# Altium footprint library MANEA_TCAD_PROIECT_PcbLib1.PcbLib: 36 footprints (part 1 of 3)
Each footprint in its own frame and in the unit in brackets; x right, y up, seen from the top. Pads: shape width x height; smd on the part's side, far side on the other; paste and mask are expansions set on the pad; w line width, h text height; cw(c..) or ccw(c..) is an arc to the next point about the centre after c.
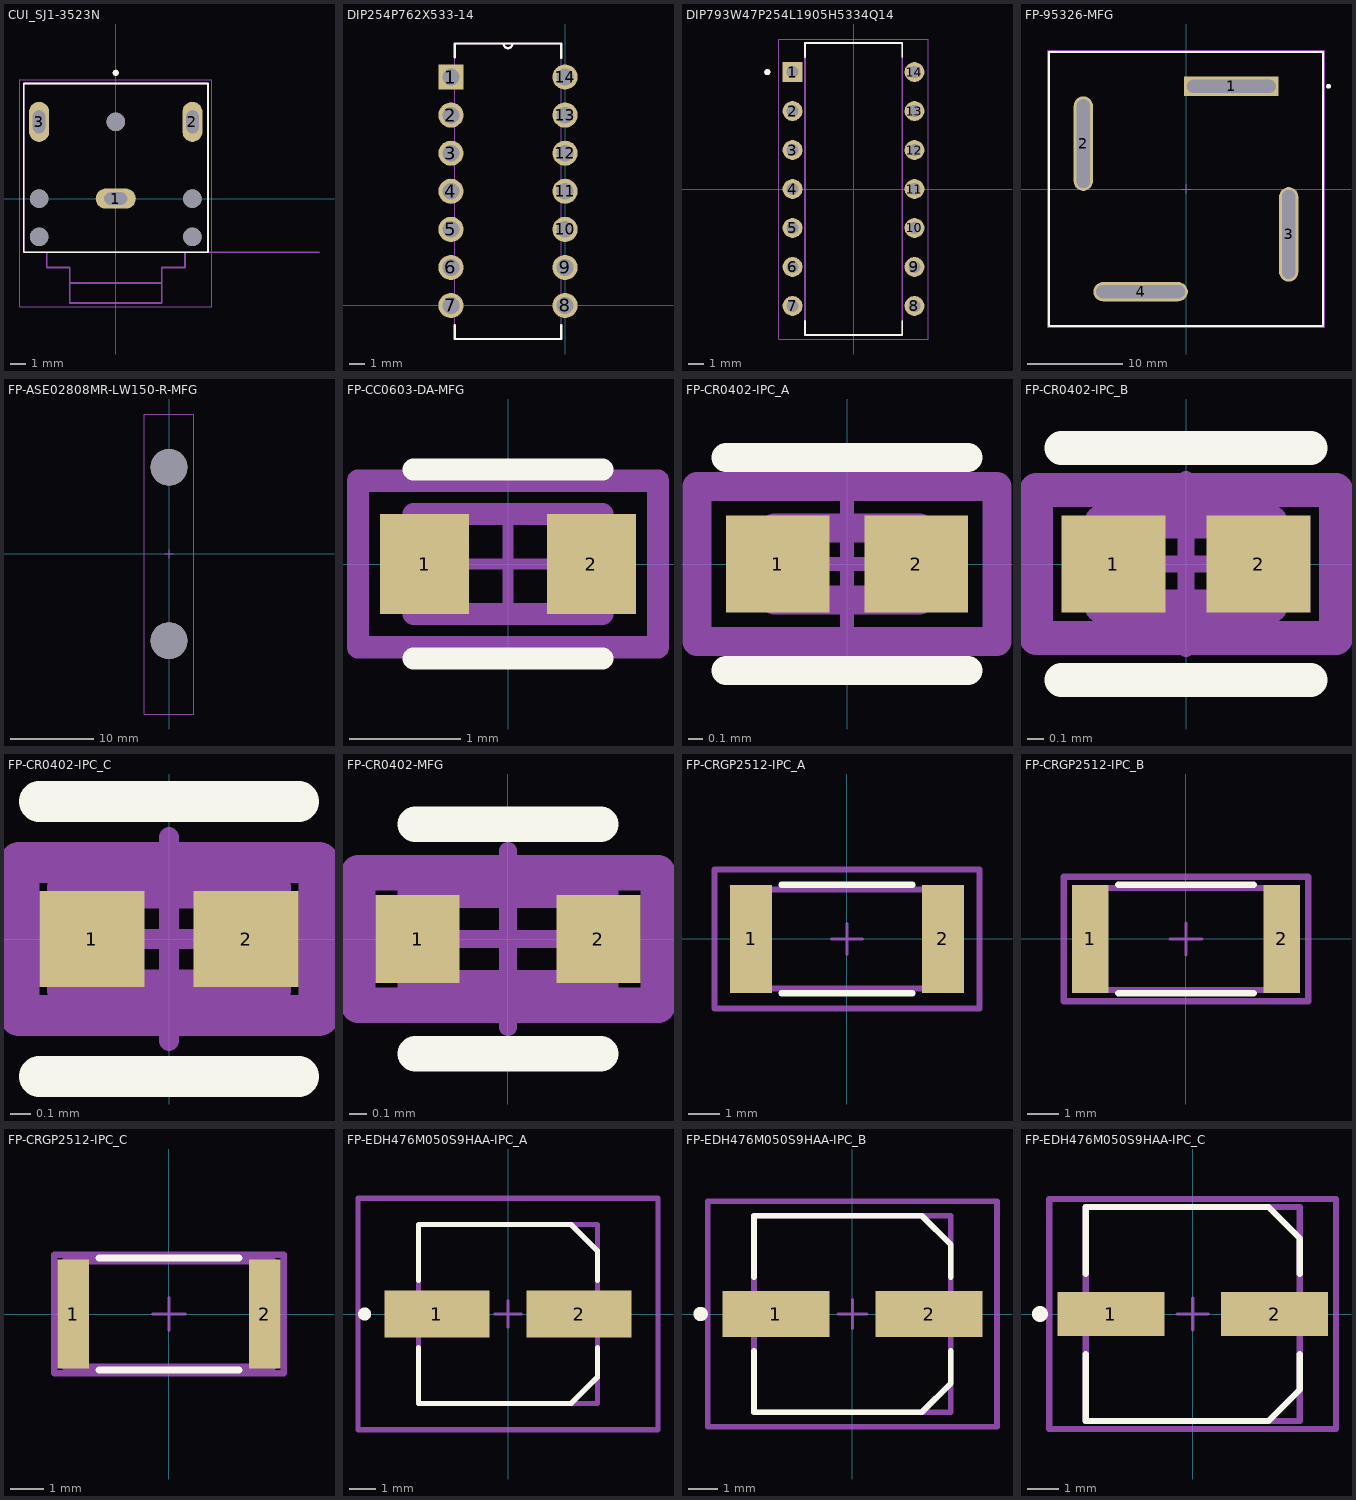
[diagram p0: the footprints below, top view; thin cyan lines are the x and y axes]

## CUI_SJ1-3523N [mm] "Manea - Stereo jack"
height 6.25
pads (8):
  oval 2.616x1.308 hole 0.8 slot 1.5 at 0 deg: 1(0,0)
  oval 1.308x2.616 hole 0.8 slot 1.5 at 90 deg: 2(5,5) 3(-5,5)
  round 1.2 hole 1.2 unplated: ""(-5,-2.5) ""(-5,0) ""(0,5) ""(5,-2.5) ""(5,0)
Top Overlay:
  circle w0.2: c0,8.2 r0.1
  lines w0.127: -6,-3.5 6,-3.5 6,7.5 -6,7.5 -6,-3.5
Top 3D Body:
  circle w0.2: c0,8.2 r0.1
  lines w0.127: 13.25,-3.5 6,-3.5 ; -4.5,-3.5 -4.5,-4.5 -3,-4.5 -3,-5.5 ; -4.5,-3.5 4.5,-3.5 ; -4.5,-3.5 -6,-3.5 -6,7.5 6,7.5 6,-3.5 ; -3,-5.5 3,-5.5 ; -3,-5.5 -3,-6.8 3,-6.8 3,-5.5 ; 3,-5.5 3,-4.5 4.5,-4.5 4.5,-3.5 ; 4.5,-3.5 6,-3.5
  text "PCB EDGE" at 7,-3.25 h0.81
Top Courtyard:
  lines w0.05: -6.25,-7.05 -6.25,7.75 6.25,7.75 6.25,-7.05 -6.25,-7.05
3D body "step_temp.STEP": height 3.01, standoff -5.5, extent -6,-6.807 6,7.493

## DIP254P762X533-14 [mil] "Manea - IC LM1877N"
pads (14):
  rect 66x66 / inner round 66 / far side rect 66x66 hole 44: 1(-300,600)
  round 66 hole 44: 2(-300,500) 3(-300,400) 4(-300,300) 5(-300,200) 6(-300,100) 7(-300,0) 8(0,0) 9(0,100) 10(0,200) 11(0,300) 12(0,400) 13(0,500) 14(0,600)
Top Overlay:
  lines w6: -290,-51 -290,-88 -10,-88 -10,-51 ; -290,652 -290,688 -162,688 ; -10,651 -10,688 -138,688 ; -162,688 ccw(c-150,688) -138,688 ; -162,688 -138,688
Top 3D Body:
  lines w0: -162,688 ccw(c-150,688) -138,688 ; -162,688 -138,688 ; -162,688 -290,688 -290,-88 -10,-88 -10,688 -138,688 ; -322,-22 -322,22 -290,22 -290,-22 -322,-22 ; -322,78 -322,122 -290,122 -290,78 -322,78 ; -322,178 -322,222 -290,222 -290,178 -322,178 ; -322,278 -322,322 -290,322 -290,278 -322,278 ; -322,378 -322,422 -290,422 -290,378 -322,378 ; -322,478 -322,522 -290,522 -290,478 -322,478 ; -322,578 -322,622 -290,622 -290,578 -322,578 ; -10,-22 -10,22 22,22 22,-22 -10,-22 ; -10,78 -10,122 22,122 22,78 -10,78 ; -10,178 -10,222 22,222 22,178 -10,178 ; -10,278 -10,322 22,322 22,278 -10,278 ; -10,378 -10,422 22,422 22,378 -10,378 ; -10,478 -10,522 22,522 22,478 -10,478 ; -10,578 -10,622 22,622 22,578 -10,578
3D body "step_temp.STEP": height 200, standoff -125.2, extent -304.92,-80.04 4.92,680

## DIP793W47P254L1905H5334Q14 [mm] "Manea - Integrated Circuit (LM1877N) [IC2 - 3]"
pads (14):
  rect 1.298x1.298 / inner round 1.298 / far side rect 1.298x1.298 hole 0.79: 1(-3.969,7.62)
  round 1.298 hole 0.79: 2(-3.969,5.08) 3(-3.969,2.54) 4(-3.969,0) 5(-3.969,-2.54) 6(-3.969,-5.08) 7(-3.969,-7.62) 8(3.969,-7.62) 9(3.969,-5.08) 10(3.969,-2.54) 11(3.969,0) 12(3.969,2.54) 13(3.969,5.08) 14(3.969,7.62)
Top Overlay:
  circle w0.2: c-5.618,7.62 r0.1
  lines w0.127: -3.175,-8.589 -3.175,-9.525 3.175,-9.525 3.175,-8.589 ; -3.175,8.589 -3.175,9.525 3.175,9.525 3.175,8.589
Top 3D Body:
  circle w0.2: c-5.618,7.62 r0.1
  lines w0.127: -3.175,-9.525 3.175,-9.525 3.175,9.525 -3.175,9.525 -3.175,-9.525
Top Courtyard:
  lines w0.05: -4.868,-9.775 -4.868,9.775 4.868,9.775 4.868,-9.775 -4.868,-9.775
3D body "step_temp.STEP": height 5.08, standoff -3.18, extent -3.935,-9.653 3.935,9.653

## FP-95326-MFG [mm] "Manea - Bridge Diode"
pads (4):
  rect 9.9x2 hole 1.4 slot 9.3 at 0 deg paste-2539.97 mask+0: 1(4.75,10.75)
  rrect100% 2x9.9 hole 1.4 slot 9.3 at 90 deg paste-2539.97 mask+0: 2(-10.75,4.75) 3(10.75,-4.75)
  rrect100% 9.9x2 hole 1.4 slot 9.3 at 0 deg paste-2539.97 mask+0: 4(-4.75,-10.75)
Top Overlay:
  circle w0.25: c14.925,10.75 r0.125
  lines w0.2: -14.325,-14.325 14.325,-14.325 14.325,14.325 -14.325,14.325 -14.325,-14.325
Top Assembly:
  lines w0.2: -14.425,-14.425 14.425,-14.425 14.425,14.425 -14.425,14.425 -14.425,-14.425
  text ".Designator" at 0,0.187 h1
Top 3D Body:
  lines w0.2: -14.325,-14.325 14.325,-14.325 14.325,14.325 -14.325,14.325 -14.325,-14.325
Top Courtyard:
  lines w0.2: -14.425,-14.425 14.425,-14.425 14.425,14.425 -14.425,14.425 -14.425,-14.425
Top Component Center:
  lines w0.1: -0.5,0 0.5,0 ; 0,-0.5 0,0.5
3D body "Diode_Vishay_VS-26MB40A_eec.STEP": height 0.25, standoff 0, extent -14.425,-14.425 14.425,14.425

## FP-ASE02808MR-LW150-R-MFG [mm] "Manea - Speaker"
pads (2):
  round 4.4 hole 4.4 unplated paste-2539.97 mask+0: ""(0,-10.4) ""(0,10.4)
Mechanical 1:
  lines w0.05: -3,16.8 3,16.8
  lines w0.1: -3,16.8 -3,-19.2 3,-19.2 3,16.8
Top Designator:
  lines w0.05: -3,16.8 -3,-19.2 3,-19.2 3,16.8
  lines w0.1: -3,16.8 3,16.8
Top Component Center:
  lines w0.1: -0.5,0 0.5,0 ; 0,-0.5 0,0.5
3D body "CLS0361--3DModel-STEP-1.STEP": height 18, standoff -18, extent -3,-19.2 3,16.8

## FP-CC0603-DA-MFG [mm] "Manea - Cap 100nF Ceramic"
pads (2):
  rect 0.8x0.9 smd paste+0 mask+0.102: 1(-0.75,0) 2(0.75,0)
Top Overlay:
  lines w0.2: -0.85,-0.85 0.85,-0.85 ; -0.85,0.85 0.85,0.85
Top Assembly:
  lines w0.2: -1.35,-0.75 1.35,-0.75 1.35,0.75 -1.35,0.75 -1.35,-0.75
  text ".Designator" at 0,0.187 h1
Top 3D Body:
  lines w0.2: -0.85,-0.45 0.85,-0.45 0.85,0.45 -0.85,0.45 -0.85,-0.45
Top Courtyard:
  lines w0.2: -1.35,-0.75 1.35,-0.75 1.35,0.75 -1.35,0.75 -1.35,-0.75
Top Component Center:
  lines w0.1: -0.5,0 0.5,0 ; 0,-0.5 0,0.5
3D body "Cap_YAGEO_CC0603KRX7R9BB271_eec.STEP": height 0.25, standoff 0, extent -1.35,-0.75 1.35,0.75

## FP-CR0402-IPC_A [mm] "Manea Resis - 2.7Ω (long)"
pads (2):
  rect 0.715x0.672 smd paste+0 mask+0.102: 1(-0.479,0) 2(0.479,0)
Top Overlay:
  lines w0.2: -0.836,-0.736 0.836,-0.736 ; -0.836,0.736 0.836,0.736
Top Assembly:
  lines w0.1: -1.036,-0.536 1.036,-0.536 1.036,0.536 -1.036,0.536 -1.036,-0.536
  text ".Designator" at 0,0.187 h1
Top 3D Body:
  lines w0.2: -0.5,-0.25 0.5,-0.25 0.5,0.25 -0.5,0.25 -0.5,-0.25
Top Courtyard:
  lines w0.2: -1.036,-0.536 1.036,-0.536 1.036,0.536 -1.036,0.536 -1.036,-0.536
Top Component Center:
  lines w0.1: -0.5,0 0.5,0 ; 0,-0.5 0,0.5
3D body "Res_Bourns_CR0402-FX-1243GLF_eec.STEP": height 0.25, standoff 0, extent -1.036,-0.536 1.036,0.536

## FP-CR0402-IPC_B [mm] "Manea Resis - 2.7Ω (mid)"
pads (2):
  rect 0.615x0.572 smd paste+0 mask+0.102: 1(-0.429,0) 2(0.429,0)
Top Overlay:
  lines w0.2: -0.736,-0.686 0.736,-0.686 ; -0.736,0.686 0.736,0.686
Top Assembly:
  lines w0.1: -0.886,-0.436 0.886,-0.436 0.886,0.436 -0.886,0.436 -0.886,-0.436
  text ".Designator" at 0,0.187 h1
Top 3D Body:
  lines w0.2: -0.5,-0.25 0.5,-0.25 0.5,0.25 -0.5,0.25 -0.5,-0.25
Top Courtyard:
  lines w0.2: -0.886,-0.436 0.886,-0.436 0.886,0.436 -0.886,0.436 -0.886,-0.436
Top Component Center:
  lines w0.1: -0.5,0 0.5,0 ; 0,-0.5 0,0.5
3D body "Res_Bourns_CR0402-FX-1243GLF_eec.STEP": height 0.25, standoff 0, extent -0.886,-0.436 0.886,0.436

## FP-CR0402-IPC_C [mm] "Manea Resis - 2.7Ω (short)"
pads (2):
  rect 0.515x0.472 smd paste+0 mask+0.102: 1(-0.379,0) 2(0.379,0)
Top Overlay:
  lines w0.2: -0.636,-0.675 0.636,-0.675 ; -0.636,0.675 0.636,0.675
Top Assembly:
  lines w0.1: -0.736,-0.375 -0.736,0.375 0.736,0.375 0.736,-0.375 -0.736,-0.375
  text ".Designator" at 0,0.187 h1
Top 3D Body:
  lines w0.2: -0.5,-0.25 -0.5,0.25 0.5,0.25 0.5,-0.25 -0.5,-0.25
Top Courtyard:
  lines w0.2: -0.736,-0.375 -0.736,0.375 0.736,0.375 0.736,-0.375 -0.736,-0.375
Top Component Center:
  lines w0.1: -0.5,0 0.5,0 ; 0,-0.5 0,0.5
3D body "Res_Bourns_CR0402-FX-1243GLF_eec.STEP": height 0.25, standoff 0, extent -0.736,-0.375 0.736,0.375

## FP-CR0402-MFG [mm] "Manea Resis - 2.7Ω (mid - short)"
pads (2):
  rect 0.475x0.5 smd paste+0 mask+0: 1(-0.512,0) 2(0.513,0)
Top Overlay:
  lines w0.2: -0.525,-0.65 0.525,-0.65 ; -0.525,0.65 0.525,0.65
Top Assembly:
  lines w0.2: -0.85,-0.375 0.85,-0.375 0.85,0.375 -0.85,0.375 -0.85,-0.375
  text ".Designator" at 0,0.187 h1
Top 3D Body:
  lines w0.2: -0.525,-0.275 0.525,-0.275 0.525,0.275 -0.525,0.275 -0.525,-0.275
Top Courtyard:
  lines w0.2: -0.85,-0.375 0.85,-0.375 0.85,0.375 -0.85,0.375 -0.85,-0.375
Top Component Center:
  lines w0.1: -0.5,0 0.5,0 ; 0,-0.5 0,0.5
3D body "Res_Bourns_CR0402-FX-1243GLF_eec.STEP": height 0.25, standoff 0, extent -0.85,-0.375 0.85,0.375

## FP-CRGP2512-IPC_A [mm] "Manea Resis - 100kΩ (long)"
pads (2):
  rect 1.35x3.5 smd paste+0 mask+0.102: 1(-3.102,0) 2(3.102,0)
Top Overlay:
  lines w0.2: -2.123,-1.753 2.123,-1.753 ; -2.123,1.753 2.123,1.753
Top Assembly:
  lines w0.2: -4.281,-2.253 4.281,-2.253 4.281,2.253 -4.281,2.253 -4.281,-2.253
  text ".Designator" at 0,0.187 h1
Top 3D Body:
  lines w0.2: -3.175,-1.6 3.175,-1.6 3.175,1.6 -3.175,1.6 -3.175,-1.6
Top Courtyard:
  lines w0.2: -4.281,-2.253 4.281,-2.253 4.281,2.253 -4.281,2.253 -4.281,-2.253
Top Component Center:
  lines w0.1: -0.5,0 0.5,0 ; 0,-0.5 0,0.5
3D body "Res_TE_CRGP2512F47R_eec.STEP": height 0.25, standoff 0, extent -4.281,-2.253 4.281,2.253

## FP-CRGP2512-IPC_B [mm] "Manea Resis - 100kΩ (mid)"
pads (2):
  rect 1.15x3.4 smd paste+0 mask+0.102: 1(-3.002,0) 2(3.002,0)
Top Overlay:
  lines w0.2: -2.123,-1.703 2.123,-1.703 ; -2.123,1.703 2.123,1.703
Top Assembly:
  lines w0.2: -3.831,-1.953 3.831,-1.953 3.831,1.953 -3.831,1.953 -3.831,-1.953
  text ".Designator" at 0,0.187 h1
Top 3D Body:
  lines w0.2: -3.175,-1.6 3.175,-1.6 3.175,1.6 -3.175,1.6 -3.175,-1.6
Top Courtyard:
  lines w0.2: -3.831,-1.953 3.831,-1.953 3.831,1.953 -3.831,1.953 -3.831,-1.953
Top Component Center:
  lines w0.1: -0.5,0 0.5,0 ; 0,-0.5 0,0.5
3D body "Res_TE_CRGP2512F47R_eec.STEP": height 0.25, standoff 0, extent -3.831,-1.953 3.831,1.953

## FP-CRGP2512-IPC_C [mm] "Manea Resis - 100kΩ (short)"
pads (2):
  rect 0.96x3.3 smd paste+0 mask+0.102: 1(-2.902,0) 2(2.902,0)
Top Overlay:
  lines w0.2: -2.123,-1.7 2.123,-1.7 ; -2.123,1.7 2.123,1.7
Top Assembly:
  lines w0.2: -3.481,-1.8 -3.481,1.8 3.481,1.8 3.481,-1.8 -3.481,-1.8
  text ".Designator" at 0,0.187 h1
Top 3D Body:
  lines w0.2: -3.175,-1.6 -3.175,1.6 3.175,1.6 3.175,-1.6 -3.175,-1.6
Top Courtyard:
  lines w0.2: -3.481,-1.8 -3.481,1.8 3.481,1.8 3.481,-1.8 -3.481,-1.8
Top Component Center:
  lines w0.1: -0.5,0 0.5,0 ; 0,-0.5 0,0.5
3D body "Res_TE_CRGP2512F47R_eec.STEP": height 0.25, standoff 0, extent -3.481,-1.8 3.481,1.8

## FP-EDH476M050S9HAA-IPC_A [mm] "Manea Cap - 47μF (small)"
pads (2):
  rect 4x1.8 smd paste+0 mask+0.102: 1(-2.7,0) 2(2.7,0)
Top Overlay:
  circle w0.25: c-5.45,0 r0.125
  lines w0.2: -3.4,-1.275 -3.4,-3.4 2.4,-3.4 3.4,-2.4 3.4,-1.275 ; -3.4,1.275 -3.4,3.4 2.4,3.4 3.4,2.4 3.4,1.275
Top Assembly:
  lines w0.2: -5.7,-4.4 5.7,-4.4 5.7,4.4 -5.7,4.4 -5.7,-4.4
  text ".Designator" at 0,0.187 h1
Top 3D Body:
  lines w0.2: -3.4,-3.4 3.4,-3.4 3.4,3.4 -3.4,3.4 -3.4,-3.4
Top Courtyard:
  lines w0.2: -5.7,-4.4 5.7,-4.4 5.7,4.4 -5.7,4.4 -5.7,-4.4
Top Component Center:
  lines w0.1: -0.5,0 0.5,0 ; 0,-0.5 0,0.5
3D body "Cap_KEMET_EDH476M050S9HAA_eec.STEP": height 0.25, standoff 0, extent -5.7,-4.4 5.7,4.4

## FP-EDH476M050S9HAA-IPC_B [mm] "Manea Cap - 47μF (medium)"
pads (2):
  rect 3.7x1.6 smd paste+0 mask+0.102: 1(-2.65,0) 2(2.65,0)
Top Overlay:
  circle w0.25: c-5.25,0 r0.125
  lines w0.2: -3.4,-1.275 -3.4,-3.4 2.4,-3.4 3.4,-2.4 3.4,-1.275 ; -3.4,1.275 -3.4,3.4 2.4,3.4 3.4,2.4 3.4,1.275
Top Assembly:
  lines w0.2: -5,-3.9 -5,3.9 5,3.9 5,-3.9 -5,-3.9
  text ".Designator" at 0,0.187 h1
Top 3D Body:
  lines w0.2: -3.4,-3.4 -3.4,3.4 3.4,3.4 3.4,-3.4 -3.4,-3.4
Top Courtyard:
  lines w0.2: -5,-3.9 -5,3.9 5,3.9 5,-3.9 -5,-3.9
Top Component Center:
  lines w0.1: -0.5,0 0.5,0 ; 0,-0.5 0,0.5
3D body "Cap_KEMET_EDH476M050S9HAA_eec.STEP": height 0.25, standoff 0, extent -5,-3.9 5,3.9

## FP-EDH476M050S9HAA-IPC_C [mm] "Manea Cap - 47μF (large)"
pads (2):
  rect 3.4x1.4 smd paste+0 mask+0.102: 1(-2.6,0) 2(2.6,0)
Top Overlay:
  circle w0.25: c-4.85,0 r0.125
  lines w0.2: -3.4,-1.275 -3.4,-3.4 2.4,-3.4 3.4,-2.4 3.4,-1.275 ; -3.4,1.275 -3.4,3.4 2.4,3.4 3.4,2.4 3.4,1.275
Top Assembly:
  lines w0.2: -4.55,-3.65 4.55,-3.65 4.55,3.65 -4.55,3.65 -4.55,-3.65
  text ".Designator" at 0,0.187 h1
Top 3D Body:
  lines w0.2: -3.4,-3.4 3.4,-3.4 3.4,3.4 -3.4,3.4 -3.4,-3.4
Top Courtyard:
  lines w0.2: -4.55,-3.65 4.55,-3.65 4.55,3.65 -4.55,3.65 -4.55,-3.65
Top Component Center:
  lines w0.1: -0.5,0 0.5,0 ; 0,-0.5 0,0.5
3D body "Cap_KEMET_EDH476M050S9HAA_eec.STEP": height 0.25, standoff 0, extent -4.55,-3.65 4.55,3.65